# Altium footprint library GPS-lib.PcbLib: 18 footprints (part 1 of 2)
Each footprint in its own frame and in the unit in brackets; x right, y up, seen from the top. Pads: shape width x height; smd on the part's side, far side on the other; paste and mask are expansions set on the pad; w line width, h text height; cw(c..) or ccw(c..) is an arc to the next point about the centre after c.
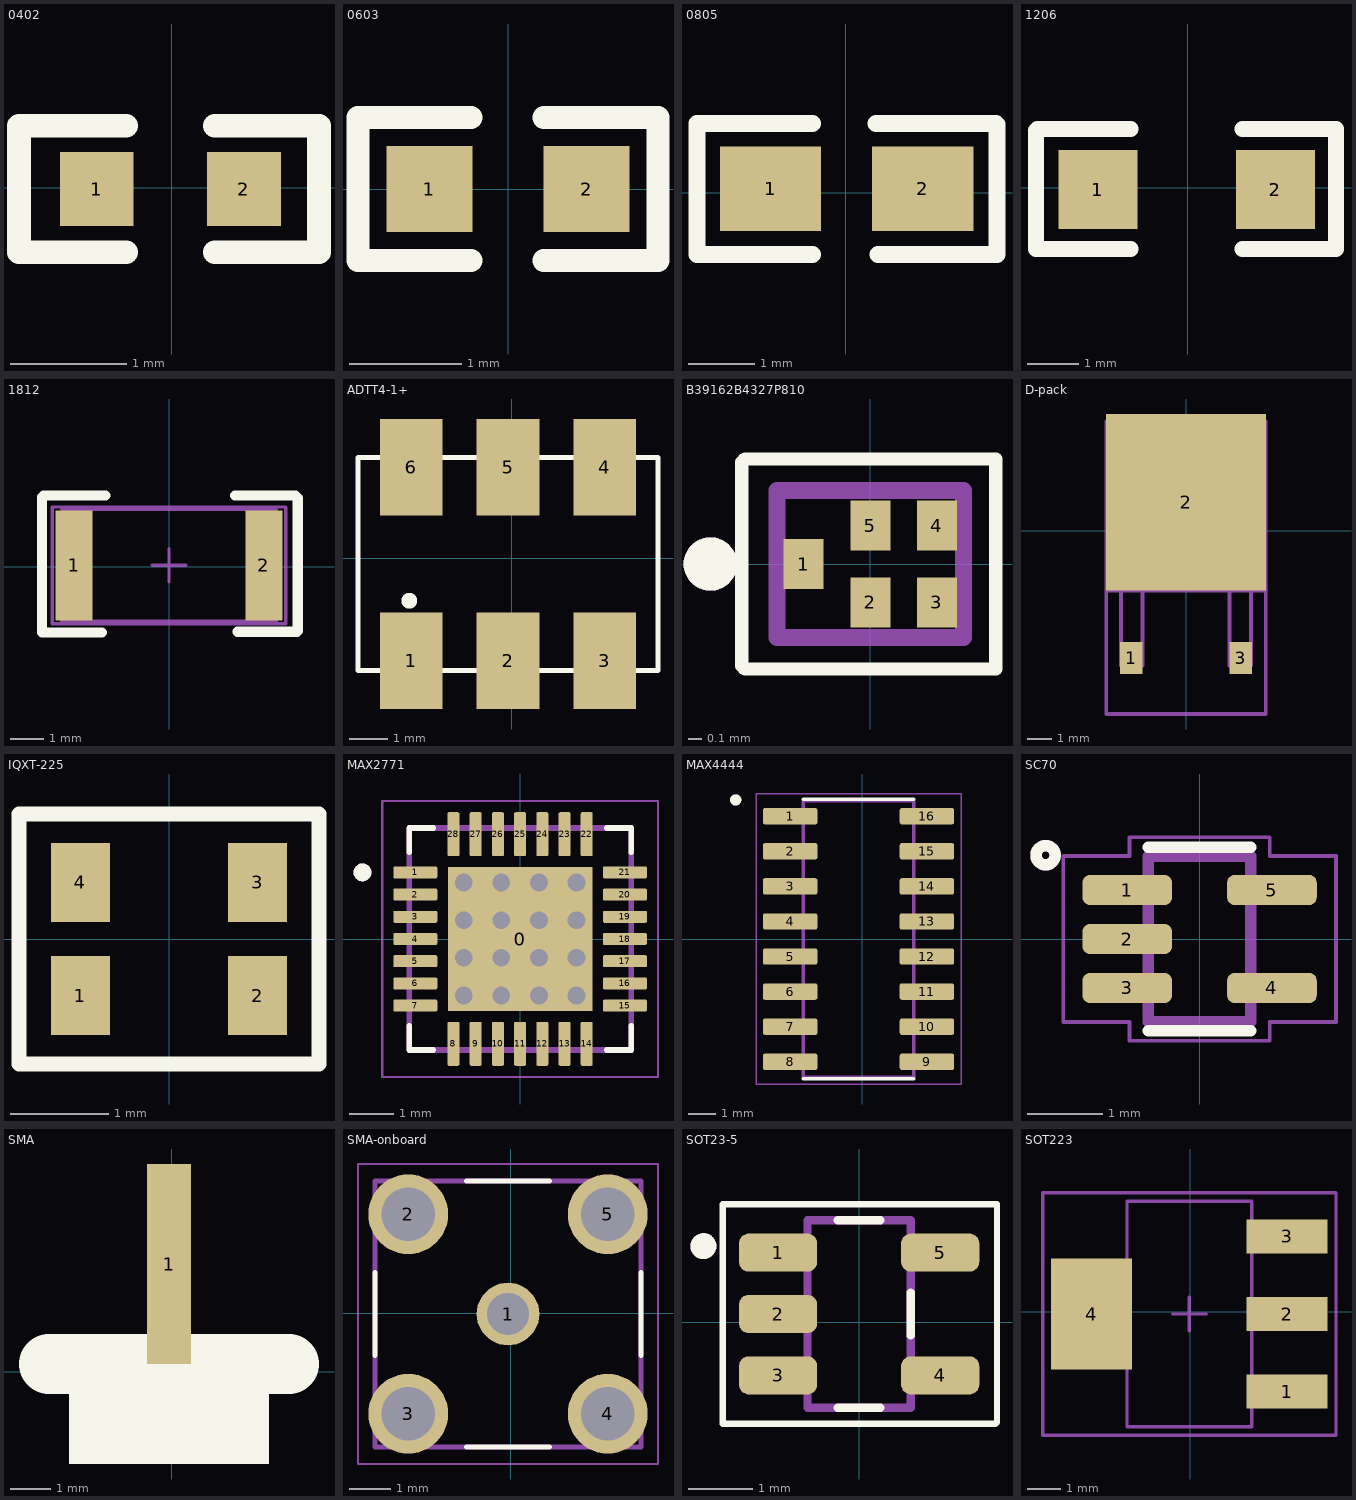
[diagram p0: the footprints below, top view; thin cyan lines are the x and y axes]

## 0402 [mil]
pads (2):
  rect 25x25 smd: 1(-25.5,-0.5) 2(24.5,-0.5)
Top Overlay:
  lines w8: -15.5,-22 -52,-22 -52,21 -15.5,21 ; 14.5,-22 50,-22 50,20 ; 14.5,21 50,21

## 0603 [mil]
pads (2):
  rect 30x30 smd: 1(-27.5,0) 2(27.5,0)
Top Overlay:
  lines w8: -13,-25 -52.5,-25 -52.5,25 -13,25 ; 12.5,-25 52.5,-25 52.5,25 12.5,25

## 0805 [mil]
pads (2):
  rect 60x50 smd: 1(-44.5,2.5) 2(45.5,2.5)
Top Overlay:
  lines w10: -19.5,-36.5 -88,-36.5 -88,41 -19.5,41 ; 18,41 89,41 ; 19,-36.5 89.5,-36.5 89.5,40.5

## 1206 [mil]
pads (2):
  rect 60x60 smd: 1(-68.5,-1.5) 2(66.5,-1.5)
Top Overlay:
  lines w12: -43.5,-46.5 -115.5,-46.5 -115.5,43.5 -114.5,44.5 -43.5,44.5 ; 41.5,-46.5 112.5,-46.5 112.5,44.5 41.5,44.5

## 1812 [mm]
pads (2):
  rect 1.1x3.3 smd: 1(-2.864,0.05) 2(2.836,0.05)
Top Overlay:
  lines w0.305: -3.823,-1.968 -2.019,-1.968 ; -3.823,-1.956 -3.823,2.095 -3.772,2.146 -1.918,2.146 ; 1.968,2.146 3.772,2.146 3.848,2.07 3.848,-1.918 3.823,-1.943 2.045,-1.943
Bottom Overlay:
  lines w0.2: -1.914,-1.5 1.886,-1.5 ; -1.914,1.6 1.886,1.6
Mechanical 13:
  lines w0.1: -3.239,-1.625 3.211,-1.625 ; -3.239,1.725 3.211,1.725
Mechanical 15:
  lines w0.1: -0.514,0.05 0.486,0.05 ; -0.014,-0.45 -0.014,0.55 ; -3.514,-1.7 3.486,-1.7 3.486,1.8 -3.514,1.8 -3.514,-1.7

## ADTT4-1+ [mil]
pads (6):
  rect 65x100 smd: 1(-104,-106) 2(-4,-106) 3(96,-106) 4(96,94) 5(-4,94) 6(-104,94)
Top Overlay:
  circle w10: c-106,-44 r3.16
  lines w5: -159,-116 -159,104 151,104 151,-116 -159,-116

## B39162B4327P810 [mm]
pads (5):
  rect 0.3x0.375 smd: 1(-0.5,0) 2(0,-0.288) 3(0.5,-0.288) 4(0.5,0.288) 5(0,0.288)
Top Overlay:
  circle w0.2: c-1.2,0 r0.1
  lines w0.1: -0.965,-0.762 -0.94,-0.787 0.94,-0.787 0.94,0.787 -0.94,0.787 -0.965,0.762 -0.965,-0.762
Mechanical 13:
  circle w0.2: c-1.2,0 r0.1
  lines w0.127: -0.7,-0.55 -0.7,0.55 0.7,0.55 0.7,-0.55 -0.7,-0.55
Mechanical 15:
  lines w0.05: -0.95,-0.8 -0.95,0.8 0.95,0.8 0.95,-0.8 -0.95,-0.8

## D-pack [mil]
pads (3):
  rect 37x52 smd: 1(-89,-208) 3(89,-208)
  rect 260x288 smd: 2(0,46)
Mechanical 13:
  lines w6: -130,-98 -130,178 130,178 130,-98 ; -130,-98 130,-98 ; -130,-98 -130,-299 130,-299 130,-98 ; -106,-220 -71,-220 -71,-98 -106,-98 -106,-220 ; 71,-220 106,-220 106,-98 71,-98 71,-220

## IQXT-225 [mm]
pads (4):
  rect 0.6x0.8 smd: 1(-0.9,-0.575) 2(0.9,-0.575) 3(0.9,0.575) 4(-0.9,0.575)
Top Overlay:
  lines w0.15: -1.524,-1.27 -1.524,1.27 1.524,1.27 1.524,-1.27 -1.524,-1.27

## MAX2771 [mm]
pads (29):
  rect 3.25x3.25 smd paste-3: 0(0,0)
  rrect25% 0.99x0.27 smd: 1(-2.36,1.5) 2(-2.36,1) 3(-2.36,0.5) 4(-2.36,0) 5(-2.36,-0.5) 6(-2.36,-1) 7(-2.36,-1.5) 15(2.36,-1.5) 16(2.36,-1) 17(2.36,-0.5) 18(2.36,0) 19(2.36,0.5) 20(2.36,1) 21(2.36,1.5)
  rrect25% 0.27x0.99 smd: 8(-1.5,-2.36) 9(-1,-2.36) 10(-0.5,-2.36) 11(0,-2.36) 12(0.5,-2.36) 13(1,-2.36) 14(1.5,-2.36) 22(1.5,2.36) 23(1,2.36) 24(0.5,2.36) 25(0,2.36) 26(-0.5,2.36) 27(-1,2.36) 28(-1.5,2.36)
via 1.27,-1.27 diameter 0.5 hole 0.4
via -0.423,-0.423 diameter 0.5 hole 0.4
via 0.423,0.423 diameter 0.5 hole 0.4
via -1.27,1.27 diameter 0.5 hole 0.4
via -0.423,1.27 diameter 0.5 hole 0.4
via -0.423,0.423 diameter 0.5 hole 0.4
via 1.27,-0.423 diameter 0.5 hole 0.4
via 0.423,-0.423 diameter 0.5 hole 0.4
via -1.27,-0.423 diameter 0.5 hole 0.4
via 0.423,-1.27 diameter 0.5 hole 0.4
via -0.423,-1.27 diameter 0.5 hole 0.4
via -1.27,-1.27 diameter 0.5 hole 0.4
via -1.27,-1.27 diameter 0.5 hole 0.4
via 1.27,0.423 diameter 0.5 hole 0.4
via -1.27,0.423 diameter 0.5 hole 0.4
via 1.27,1.27 diameter 0.5 hole 0.4
via 0.423,1.27 diameter 0.5 hole 0.4
Top Overlay:
  circle w0.2: c-3.55,1.5 r0.1
  lines w0.127: -2.5,-1.955 -2.5,-2.5 -1.955,-2.5 ; -2.5,1.955 -2.5,2.5 -1.955,2.5 ; 1.955,-2.5 2.5,-2.5 2.5,-1.955 ; 1.955,2.5 2.5,2.5 2.5,1.955
Top Paste:
  region: 1.03,-1.03 -1.03,-1.03 -1.03,1.03 1.03,1.03
Mechanical 13:
  circle w0.2: c-3.55,1.5 r0.1
  lines w0.127: -2.5,-2.5 -2.5,2.5 2.5,2.5 2.5,-2.5 -2.5,-2.5
Mechanical 15:
  lines w0.05: -3.105,-3.105 -3.105,3.105 3.105,3.105 3.105,-3.105 -3.105,-3.105

## MAX4444 [mm]
pads (16):
  rrect25% 1.97x0.59 smd: 1(-2.602,4.445) 2(-2.602,3.175) 3(-2.602,1.905) 4(-2.602,0.635) 5(-2.602,-0.635) 6(-2.602,-1.905) 7(-2.602,-3.175) 8(-2.602,-4.445) 9(2.348,-4.445) 10(2.348,-3.175) 11(2.348,-1.905) 12(2.348,-0.635) 13(2.348,0.635) 14(2.348,1.905) 15(2.348,3.175) 16(2.348,4.445)
Top Overlay:
  circle w0.2: c-4.572,5.035 r0.1
  lines w0.127: -2.127,-5.06 1.873,-5.06 ; -2.127,5.06 1.873,5.06
Mechanical 13:
  circle w0.2: c-4.572,5.035 r0.1
  lines w0.127: -2.127,-5 1.873,-5 1.873,5 -2.127,5 -2.127,-5
Mechanical 15:
  lines w0.05: -3.837,-5.25 3.583,-5.25 3.583,5.25 -3.837,5.25 -3.837,-5.25

## SC70 [mm]
pads (5):
  rrect50% 1.19x0.4 smd: 1(-0.96,0.65) 2(-0.96,0) 3(-0.96,-0.65) 4(0.96,-0.65) 5(0.96,0.65)
Top Overlay:
  lines w0.152: -0.68,-1.219 0.68,-1.219 ; -0.68,1.219 0.68,1.219 ; -2.044,0.985 cw(c-2.044,1.112) -2.044,1.239 cw(c-2.044,1.112) -2.044,0.985
Mechanical 13:
  lines w0.152: -2.044,0.985 cw(c-2.044,1.112) -2.044,1.239 cw(c-2.044,1.112) -2.044,0.985 ; -0.68,-1.1 -0.68,1.1 0.68,1.1 0.68,-1.1 -0.68,-1.1
Mechanical 15:
  lines w0.05: -1.81,-1.1 -0.93,-1.1 -0.93,-1.35 0.93,-1.35 0.93,-1.1 1.81,-1.1 1.81,1.1 0.93,1.1 0.93,1.35 -0.93,1.35 -0.93,1.1 -1.81,1.1 -1.81,-1.1

## SMA [mm]
pads (1):
  rect 1.1x5 smd: 1(-0.064,2.692)
Top Overlay:
  rectangle: -2.564,-2.308 2.437,0.192
  lines w1.5: -3.063,0.192 2.936,0.192

## SMA-onboard [mm]
pads (5):
  round 1.508 hole 1: 1(-0.064,-0.013)
  round 1.92 hole 1.28: 2(-2.464,2.387) 3(-2.464,-2.413) 4(2.337,-2.413) 5(2.337,2.387)
Top Overlay:
  lines w0.127: -3.264,-1.013 -3.264,0.987 ; -1.064,-3.213 0.937,-3.213 ; -1.064,3.187 0.937,3.187 ; 3.137,-1.013 3.137,0.987
Mechanical 13:
  lines w0.127: -3.264,-3.213 -3.264,3.187 3.137,3.187 3.137,-3.213 -3.264,-3.213
Mechanical 15:
  lines w0.05: -3.674,-3.623 -3.674,3.597 3.547,3.597 3.547,-3.623 -3.674,-3.623
3D body "step_temp.STEP": height 13.6, standoff 0, extent -3.314,-3.263 3.187,3.237

## SOT23-5 [mm]
pads (5):
  rrect50% 1.21x0.59 smd: 1(-1.255,1.077) 2(-1.255,0.127) 3(-1.255,-0.823) 4(1.255,-0.823) 5(1.255,1.077)
Top Overlay:
  circle w0.2: c-2.41,1.177 r0.1
  lines w0.1: 2.108,-1.575 2.134,-1.549 ; 2.108,-1.575 2.134,-1.549 ; 2.108,-1.575 -2.108,-1.575 -2.108,1.829 2.134,1.829 2.134,-1.549
  lines w0.127: -0.33,-1.323 0.33,-1.323 ; -0.33,1.577 0.33,1.577 ; 0.8,-0.208 0.8,0.462
Mechanical 13:
  circle w0.2: c-2.41,1.177 r0.1
  lines w0.127: -0.8,-1.323 -0.8,1.577 0.8,1.577 0.8,-1.323 -0.8,-1.323
Mechanical 15:
  lines w0.05: -2.11,-1.573 2.11,-1.573 2.11,1.827 -2.11,1.827 -2.11,-1.573

## SOT223 [mm]
pads (4):
  rect 2.4x1 smd: 1(2.873,-2.369) 2(2.873,-0.069) 3(2.873,2.231)
  rect 2.4x3.3 smd: 4(-2.927,-0.069)
Bottom Overlay:
  circle w0.25: c2.873,-3.419 r0.125
  lines w0.2: -1.427,-3.419 1.373,-3.419 1.373,3.281 -1.427,3.281 -1.427,-3.419
Mechanical 13:
  lines w0.1: -1.877,-3.419 1.823,-3.419 1.823,3.281 -1.877,3.281 -1.877,-3.419
Mechanical 15:
  lines w0.1: -0.527,-0.069 0.473,-0.069 ; -0.027,-0.569 -0.027,0.431 ; -4.377,-3.669 4.323,-3.669 4.323,3.531 -4.377,3.531 -4.377,-3.669
3D body: height 1.7, standoff 0, extent -1.877,-3.419 1.823,3.281